# Altium footprint library Capacitors_rus.PCBLIB: 349 footprints (part 5 of 22)
Each footprint in its own frame and in the unit in brackets; x right, y up, seen from the top. Pads: shape width x height; smd on the part's side, far side on the other; paste and mask are expansions set on the pad; w line width, h text height; cw(c..) or ccw(c..) is an arc to the next point about the centre after c.
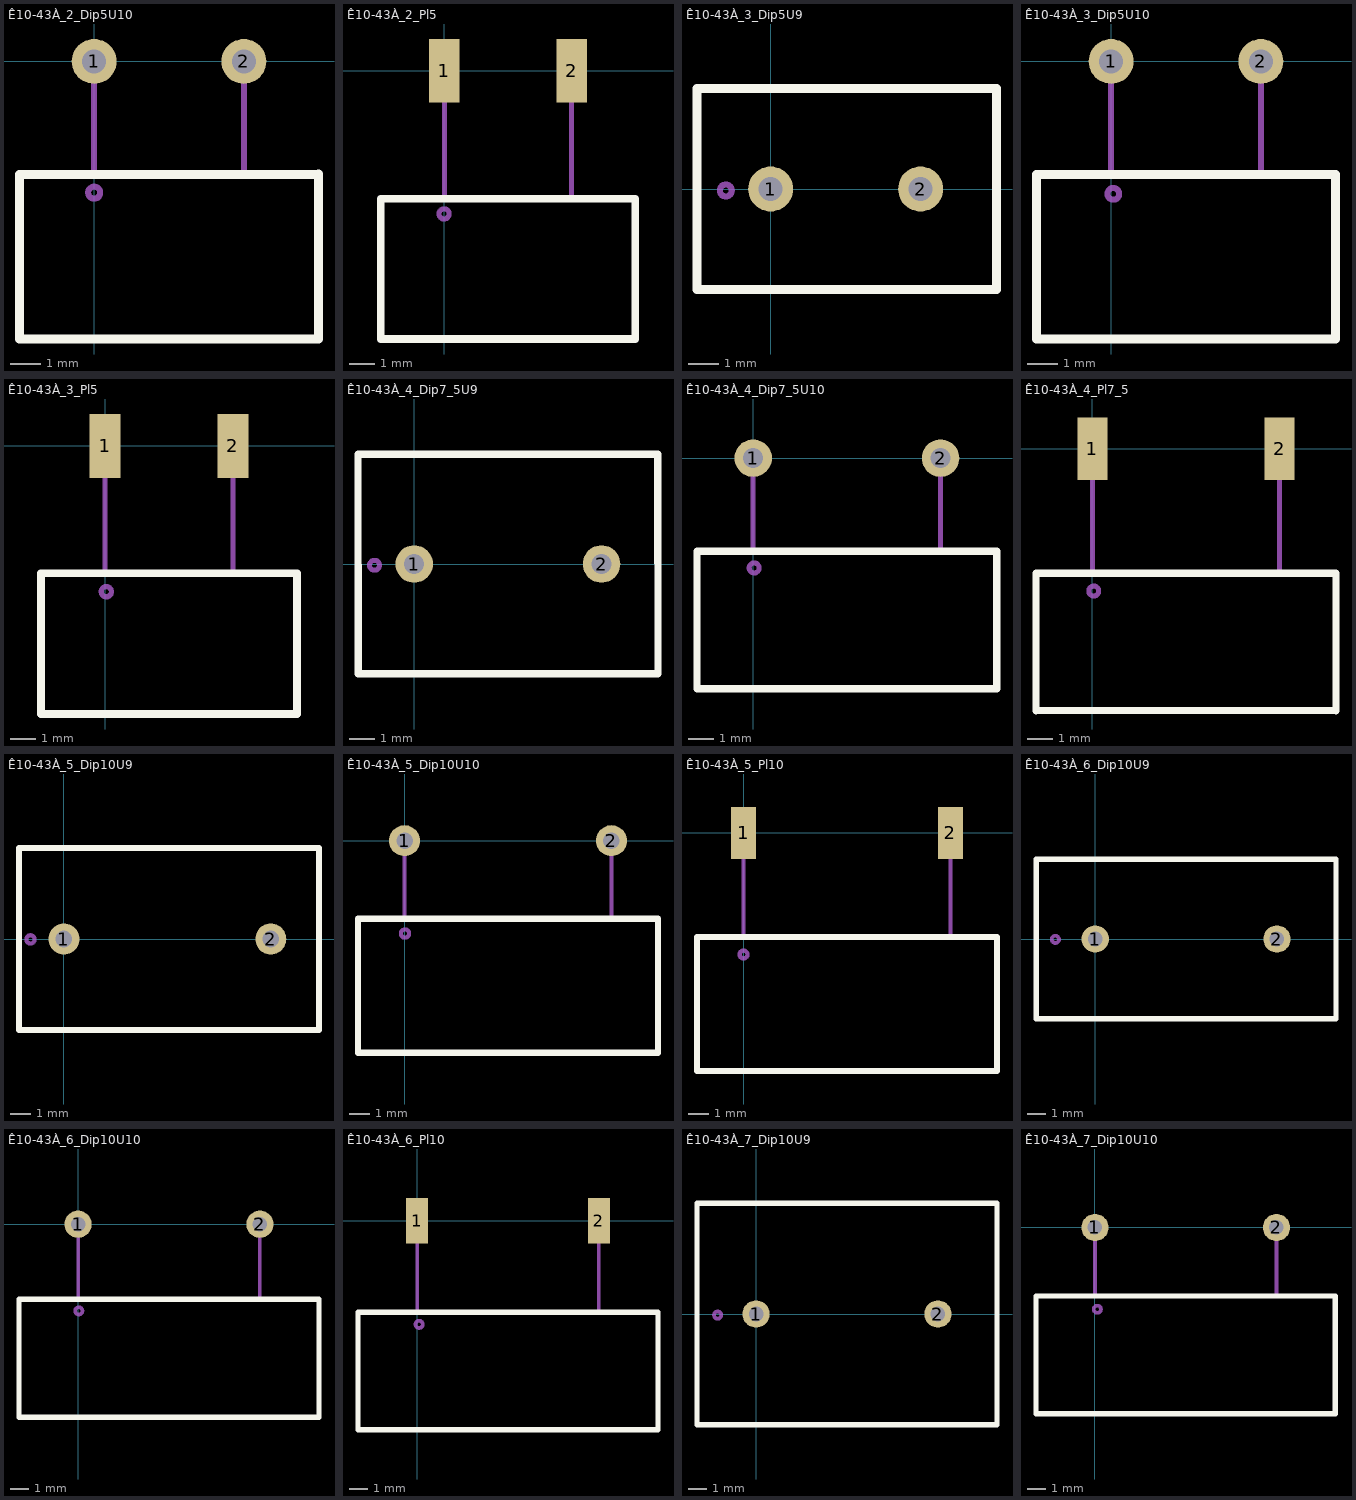
[diagram p4: the footprints below, top view; thin cyan lines are the x and y axes]

## Ê10-43À_2_Dip5U10 [mm]
height 4.8
pads (2):
  round 1.5 hole 0.8: 1(0,0) 2(5,0)
Top Overlay:
  lines w0.3: 7.5,-3.775 -2.5,-3.775 -2.5,-9.275 7.5,-9.275 7.5,-3.765
Mechanical 1:
  circle w0.2: c0,-4.385 r0.2
  lines w0.2: 0,-3.785 0,0 ; 5,-3.785 5,0 ; -2.5,-9.275 -2.5,-3.775 7.5,-3.775 7.5,-9.275 -2.5,-9.275
  text ".Designator" at -0.57,-6.85 h1.5

## Ê10-43À_2_Pl5 [mm]
height 4.8
pads (2):
  rect 1.2x2.5 smd: 1(0,0) 2(5,0)
Top Overlay:
  lines w0.3: -2.5,-10.525 7.5,-10.525 7.5,-5.025 -2.5,-5.025 -2.5,-10.525
Mechanical 1:
  circle w0.2: c-0.01,-5.615 r0.2
  lines w0.2: 0,-5.035 0,0 ; 5,-5.055 5,0 ; -2.5,-10.525 7.5,-10.525 7.5,-5.025 -2.5,-5.025 -2.5,-10.525
  text ".Designator" at -0.27,-8.25 h1.5

## Ê10-43À_3_Dip5U9 [mm]
height 6.5
pads (2):
  round 1.5 hole 0.8: 1(0,0) 2(5,0)
Top Overlay:
  lines w0.3: -2.46,-3.35 -2.46,3.35 7.54,3.35 7.54,-3.35 -2.46,-3.35
Mechanical 1:
  circle w0.2: c-1.5,-0.05 r0.2
  lines w0.2: 7.54,3.35 -2.46,3.35 -2.46,-3.35 7.54,-3.35 7.55,3.35
  text ".Designator" at 0.13,-0.4 h1.5

## Ê10-43À_3_Dip5U10 [mm]
height 6.7
pads (2):
  round 1.5 hole 0.8: 1(0,0) 2(5,0)
Top Overlay:
  lines w0.3: -2.5,-9.275 -2.5,-3.775 7.5,-3.775 7.5,-9.275 -2.5,-9.275
Mechanical 1:
  circle w0.2: c0.07,-4.425 r0.196
  lines w0.2: 0,-3.79 0,0 ; 5,-3.79 5,0 ; -2.5,-9.275 -2.5,-3.775 7.5,-3.775 7.5,-9.275 -2.5,-9.275
  text ".Designator" at -0.42,-7 h1.5

## Ê10-43À_3_Pl5 [mm]
height 6.7
pads (2):
  rect 1.2x2.5 smd: 1(0,0) 2(5,0)
Top Overlay:
  lines w0.3: 7.5,-4.985 -2.5,-4.98 -2.5,-10.475 7.5,-10.475 7.5,-4.98
Mechanical 1:
  circle w0.2: c0.05,-5.695 r0.2
  lines w0.2: 0,-5 0,0 ; 5,-5 5,0 ; 7.5,-4.985 7.5,-10.475 -2.5,-10.475 -2.5,-4.98 7.5,-4.98
  text ".Designator" at -0.27,-8.15 h1.5

## Ê10-43À_4_Dip7_5U9 [mm]
height 6
pads (2):
  round 1.5 hole 0.8: 1(0,0) 2(7.5,0)
Top Overlay:
  lines w0.3: -2.25,-4.4 9.76,-4.4 9.75,4.4 -2.25,4.4 -2.24,-4.4
Mechanical 1:
  circle w0.2: c-1.59,-0.05 r0.2
  lines w0.2: -2.25,-4.4 -2.25,4.4 9.75,4.4 9.75,-4.4 -2.25,-4.4
  text ".Designator" at 1.18,-0.3 h1.5

## Ê10-43À_4_Dip7_5U10 [mm]
height 8.8
pads (2):
  round 1.5 hole 0.8: 1(0,0) 2(7.5,0)
Top Overlay:
  lines w0.3: -2.25,-3.725 -2.25,-9.225 9.75,-9.225 9.75,-3.725 -2.24,-3.725
Mechanical 1:
  circle w0.2: c0.04,-4.395 r0.2
  lines w0.2: -2.25,-3.725 -2.25,-9.225 9.75,-9.225 9.76,-3.725 ; -2.24,-3.725 9.75,-3.725 ; 0,-3.74 0,0 ; 7.5,-3.74 7.5,0
  text ".Designator" at 1.03,-7.25 h1.5

## Ê10-43À_4_Pl7_5 [mm]
height 8.8
pads (2):
  rect 1.2x2.5 smd: 1(0,0) 2(7.5,0)
Top Overlay:
  lines w0.3: -2.25,-10.475 -2.25,-4.975 9.75,-4.975 9.75,-10.475 -2.25,-10.465
Mechanical 1:
  circle w0.2: c0.06,-5.695 r0.2
  lines w0.2: 0,-5 0,0 ; 7.5,-5 7.5,0 ; -2.25,-10.475 9.75,-10.475 9.75,-4.975 -2.25,-4.975 -2.25,-10.475
  text ".Designator" at 0.73,-8.55 h1.5

## Ê10-43À_5_Dip10U9 [mm]
height 6.5
pads (2):
  round 1.5 hole 0.8: 1(0,0) 2(10,0)
Top Overlay:
  lines w0.3: -2.17,-4.4 -2.17,4.4 12.33,4.4 12.33,-4.4 -2.17,-4.4
Mechanical 1:
  lines w0.2: -1.415,-0.025 cw(c-1.615,-0.02) -1.415,-0.02 ; -2.17,-4.4 -2.17,4.4 12.33,4.4 12.33,-4.4 -2.17,-4.4
  text ".Designator" at 2.18,-0.3 h1.5

## Ê10-43À_5_Dip10U10 [mm]
height 8.8
pads (2):
  round 1.5 hole 0.8: 1(0,0) 2(10,0)
Top Overlay:
  lines w0.3: -2.25,-10.25 -2.25,-3.775 12.25,-3.775 12.25,-10.25 -2.25,-10.25
Mechanical 1:
  circle w0.2: c0.02,-4.485 r0.2
  lines w0.2: 0,-3.8 0,0 ; 10,-3.795 10,0 ; -2.25,-10.25 -2.25,-3.775 12.25,-3.775 12.25,-10.25 -2.25,-10.25
  text ".Designator" at 2.48,-7.45 h1.5

## Ê10-43À_5_Pl10 [mm]
height 8.8
pads (2):
  rect 1.2x2.5 smd: 1(0,0) 2(10,0)
Top Overlay:
  lines w0.3: -2.25,-11.5 12.25,-11.5 12.25,-5.025 -2.25,-5.025 -2.25,-11.5
Mechanical 1:
  circle w0.2: c0,-5.875 r0.19
  lines w0.2: 0,-5.04 0,0 ; 10,-5.04 10,0 ; 12.25,-5.035 12.25,-11.5 -2.25,-11.5 -2.25,-5.025 12.25,-5.025
  text ".Designator" at 1.88,-8.7 h1.5

## Ê10-43À_6_Dip10U9 [mm]
height 6.5
pads (2):
  round 1.5 hole 0.8: 1(0,0) 2(10,0)
Top Overlay:
  lines w0.3: -3.25,-4.4 -3.25,4.4 13.25,4.4 13.25,-4.4 -3.25,-4.4
Mechanical 1:
  circle w0.2: c-2.195,-0.02 r0.2
  lines w0.2: -3.26,-4.4 13.25,-4.4 13.25,4.4 -3.25,4.4 -3.25,-4.4
  text ".Designator" at 2.28,-0.35 h1.5

## Ê10-43À_6_Dip10U10 [mm]
height 8.8
pads (2):
  round 1.5 hole 0.8: 1(0,0) 2(10,0)
Top Overlay:
  lines w0.3: -3.25,-4.135 -3.25,-10.625 13.25,-10.625 13.25,-4.125 -3.25,-4.125
Mechanical 1:
  circle w0.2: c0.04,-4.765 r0.2
  lines w0.2: 0,-4.14 0,0 ; 10,-4.14 10,0 ; 13.24,-4.125 -3.25,-4.125 -3.25,-10.625 13.25,-10.625 13.25,-4.135
  text ".Designator" at 1.68,-7.65 h1.5

## Ê10-43À_6_Pl10 [mm]
height 8.8
pads (2):
  rect 1.2x2.5 smd: 1(0,0) 2(10,0)
Top Overlay:
  lines w0.3: -3.25,-11.5 13.25,-11.5 13.25,-5.025 -3.25,-5.025 -3.25,-11.5
Mechanical 1:
  circle w0.2: c0.11,-5.695 r0.2
  lines w0.2: 0,-5.04 0,0 ; 10,-5.04 10,0 ; -3.25,-11.5 13.25,-11.5 13.25,-5.025 -3.25,-5.025 -3.25,-11.5
  text ".Designator" at 1.73,-8.65 h1.5

## Ê10-43À_7_Dip10U9 [mm]
height 6.5
pads (2):
  round 1.5 hole 0.8: 1(0,0) 2(10,0)
Top Overlay:
  lines w0.3: -3.25,-6.1 13.25,-6.1 13.25,6.1 -3.25,6.1 -3.25,-6.1
Mechanical 1:
  circle w0.2: c-2.115,-0.06 r0.2
  lines w0.2: -3.25,-6.1 13.25,-6.1 13.25,6.1 -3.25,6.1 -3.25,-6.1
  text ".Designator" at 1.58,-0.35 h1.5

## Ê10-43À_7_Dip10U10 [mm]
height 12.2
pads (2):
  round 1.5 hole 0.8: 1(0,0) 2(10,0)
Top Overlay:
  lines w0.3: -3.25,-10.275 -3.25,-3.775 13.25,-3.775 13.25,-10.275 -3.25,-10.275
Mechanical 1:
  circle w0.2: c0.13,-4.505 r0.2
  lines w0.2: 0,-3.795 0,0 ; 10,-3.795 10,0 ; 13.25,-10.275 13.25,-3.775 ; 13.26,-10.285 -3.25,-10.275 -3.25,-3.775 13.28,-3.785
  text ".Designator" at 2.53,-7.2 h1.5